# Altium integrated library DIOT-mini-backplane.IntLib: 19 symbols
Pins are listed as number, name and electrical type; pins without a type are passive.

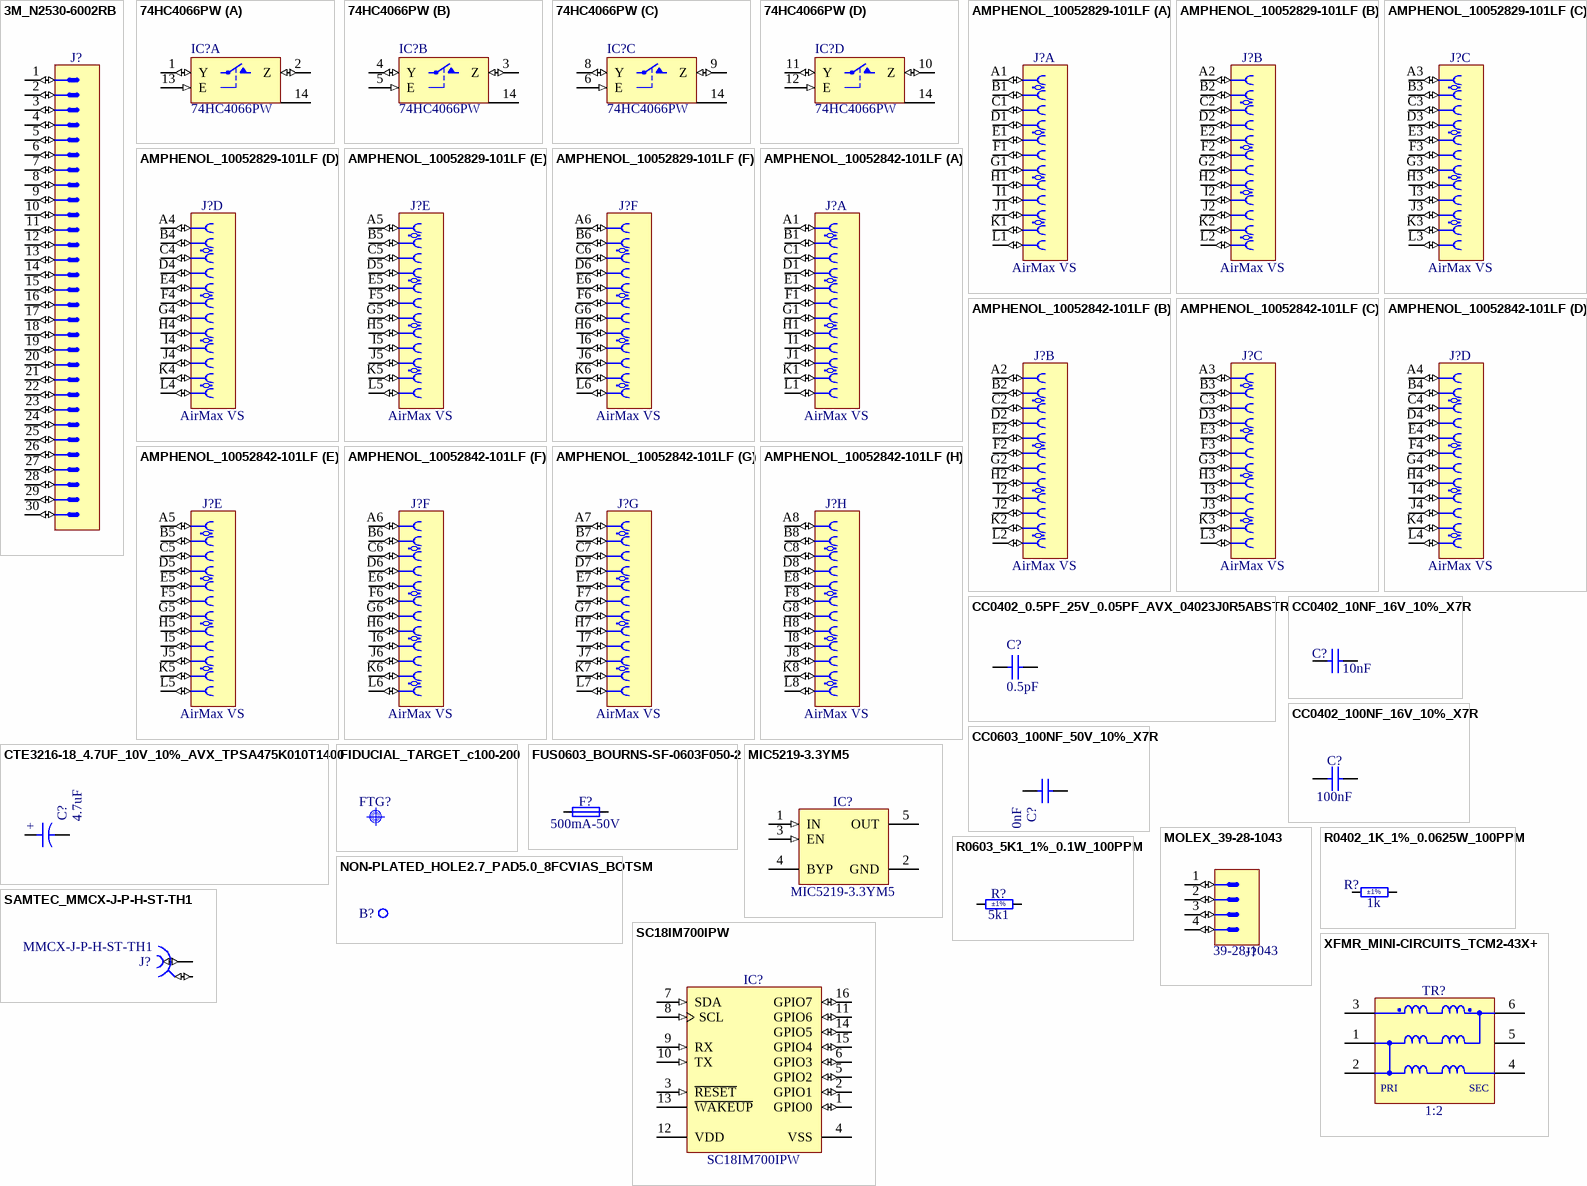
[diagram p0: symbols 3M_N2530-6002RB to XFMR_MINI-CIRCUITS_TCM2-43X+]

## 3M_N2530-6002RB
designator J?
Connector 30 Male; Part Number: 3M_N2530-6002RB; Part Description: 30 Contacts - Straight .100'' x .100'' Low Profile Four-Wall Header, 2500 Series; Manufacturer: 3M; Manufacturer Part Number: N2530-6002RB; PressFit: No; Component Kind: Standard; Component Type: Standard; Footprint: 3M_N2530-6002RB; Pin Count: 30; Family: Header 30; Mounted: Yes; Socket: No; SMD: No; Sense: No; Status: None; ComponentHeight: 10.03mm; HelpURL: \\cern.ch\dfs\Applications\Altium\Datasheets\3M_N2530-6002RB.pdf; Author: CERN DEM JLC; CreateDate: 11.02.2009; LatestRevisionDate: 11.08.2009
footprint 3M_N2530-6002RB
pins: 1 (io), 2 (io), 3 (io), 4 (io), 5 (io), 6 (io), 7 (io), 8 (io), 9 (io), 10 (io), 11 (io), 12 (io), 13 (io), 14 (io), 15 (io), 16 (io), 17 (io), 18 (io), 19 (io), 20 (io), 21 (io), 22 (io), 23 (io), 24 (io), 25 (io), 26 (io), 27 (io), 28 (io), 29 (io), 30 (io)
1 alternate drawing of the same symbol

## 74HC4066PW
designator IC?
Part Description: Quad Single-Pole Single-Throw Analog Switch; Manufacturer: NXP SEMICONDUCTORS; PressFit: No; Bonding: No; Table: Standard Logic; Part Number: 74HC4066PW; Component Kind: Standard; Component Type: Standard; Device: 74HC4066PW; Footprint: SOP65P640X110-14N; PackageDescription: SOP, 14-Leads, Body 4.4x5mm (max), Pitch 0.65mm, IPC Medium Density; Manufacturer Part Number: 74HC4066PW; Pin Count: 14; Case: TSSOP14; Mounted: Yes; Socket: No; SMD: Yes; ComponentHeight: 1.1mm; Author: CERN DEM JLC; HelpURL: \\cern.ch\dfs\Applications\Altium\Datasheets\74HC4066PW.pdf; CreateDate: 2014-11-19; LatestRevisionDate: 2014-11-19
footprint SOP65P640X110-14N
simulation model pk14 (Model Description)
pins on every part: 7 GND (power) hidden to GND, 14 VCC (power)
part A pins: 1 Y (io), 2 Z (io), 13 E (in)
part B pins: 3 Z (io), 4 Y (io), 5 E (in)
part C pins: 6 E (in), 8 Y (io), 9 Z (io)
part D pins: 10 Z (io), 11 Y (io), 12 E (in)

## AMPHENOL_10052829-101LF
designator J?, comment AirMax VS
72 Contacts Receptacle, 6 Columns, 4 Pairs per Column; Part Number: AMPHENOL_10052829-101LF; Part Description: 72 Contacts, 2mm Pitch, 6 Columns, 4 Pairs per Column, Vertical Receptacle; Manufacturer: AMPHENOL; Manufacturer Part Number: 10052829-101LF; Component Kind: Standard; Component Type: Standard; Footprint: AMPHENOL_10052829-101LF; Pin Count: 72; Family: AirMax VS; Mounted: Yes; Socket: No; SMD: No; PressFit: Yes; Sense: No; Status: None; ComponentHeight: 10.85mm; HelpURL: \\cern.ch\dfs\Applications\Altium\Datasheets\AMPHENOL_10052829-101LF.pdf; ComponentLink1URL: \\cern.ch\dfs\Applications\Altium\Datasheets\AMPHENOL_10052829-101LF_Application.pdf; ComponentLink1Description: Application; Author: CERN DEM MR; CreateDate: 30.04.2019; LatestRevisionDate: 30.04.2019
footprint AMPHENOL_10052829-101LF
part A pins: A1 (io), B1 (io), C1 (io), D1 (io), E1 (io), F1 (io), G1 (io), H1 (io), I1 (io), J1 (io), K1 (io), L1 (io)
part B pins: A2 (io), B2 (io), C2 (io), D2 (io), E2 (io), F2 (io), G2 (io), H2 (io), I2 (io), J2 (io), K2 (io), L2 (io)
part C pins: A3 (io), B3 (io), C3 (io), D3 (io), E3 (io), F3 (io), G3 (io), H3 (io), I3 (io), J3 (io), K3 (io), L3 (io)
part D pins: A4 (io), B4 (io), C4 (io), D4 (io), E4 (io), F4 (io), G4 (io), H4 (io), I4 (io), J4 (io), K4 (io), L4 (io)
part E pins: A5 (io), B5 (io), C5 (io), D5 (io), E5 (io), F5 (io), G5 (io), H5 (io), I5 (io), J5 (io), K5 (io), L5 (io)
part F pins: A6 (io), B6 (io), C6 (io), D6 (io), E6 (io), F6 (io), G6 (io), H6 (io), I6 (io), J6 (io), K6 (io), L6 (io)
1 alternate drawing of the same symbol

## AMPHENOL_10052842-101LF
designator J?, comment AirMax VS
96 Contacts Receptacle, 8 Columns, 4 Pairs per Column; Part Number: AMPHENOL_10052842-101LF; Part Description: 96 Contacts, 2mm Pitch, 8 Columns, 4 Pairs per Column, Vertical Receptacle; Manufacturer: AMPHENOL; Manufacturer Part Number: 10052842-101LF; Component Kind: Standard; Component Type: Standard; Footprint: AMPHENOL_10052842-101LF; Pin Count: 96; Family: AirMax VS; Mounted: Yes; Socket: No; SMD: No; PressFit: Yes; Sense: No; Status: None; ComponentHeight: 10.85mm; HelpURL: \\cern.ch\dfs\Applications\Altium\Datasheets\AMPHENOL_10052842-101LF.pdf; ComponentLink1URL: \\cern.ch\dfs\Applications\Altium\Datasheets\AMPHENOL_10052842-101LF_Application.pdf; ComponentLink1Description: Application; Author: CERN DEM MR; CreateDate: 30.04.2019; LatestRevisionDate: 30.04.2019
footprint AMPHENOL_10052842-101LF
part A pins: A1 (io), B1 (io), C1 (io), D1 (io), E1 (io), F1 (io), G1 (io), H1 (io), I1 (io), J1 (io), K1 (io), L1 (io)
part B pins: A2 (io), B2 (io), C2 (io), D2 (io), E2 (io), F2 (io), G2 (io), H2 (io), I2 (io), J2 (io), K2 (io), L2 (io)
part C pins: A3 (io), B3 (io), C3 (io), D3 (io), E3 (io), F3 (io), G3 (io), H3 (io), I3 (io), J3 (io), K3 (io), L3 (io)
part D pins: A4 (io), B4 (io), C4 (io), D4 (io), E4 (io), F4 (io), G4 (io), H4 (io), I4 (io), J4 (io), K4 (io), L4 (io)
part E pins: A5 (io), B5 (io), C5 (io), D5 (io), E5 (io), F5 (io), G5 (io), H5 (io), I5 (io), J5 (io), K5 (io), L5 (io)
part F pins: A6 (io), B6 (io), C6 (io), D6 (io), E6 (io), F6 (io), G6 (io), H6 (io), I6 (io), J6 (io), K6 (io), L6 (io)
part G pins: A7 (io), B7 (io), C7 (io), D7 (io), E7 (io), F7 (io), G7 (io), H7 (io), I7 (io), J7 (io), K7 (io), L7 (io)
part H pins: A8 (io), B8 (io), C8 (io), D8 (io), E8 (io), F8 (io), G8 (io), H8 (io), I8 (io), J8 (io), K8 (io), L8 (io)
1 alternate drawing of the same symbol

## CC0402_0.5PF_25V_0.05PF_AVX_04023J0R5ABSTR
designator C?, comment 0.5pF
Non-polarised capacitor; Part Number: CC0402_0.5PF_25V_0.05PF_AVX_04023J0R5ABSTR; Part Description: Thin-Film Chip Capacitors for RF Signal and Power Applications, Accu-P Series; Manufacturer: AVX; Manufacturer Part Number: 04023J0R5ABSTR; Voltage: 25V; Tolerance: ±0.05pF; Component Kind: Standard; Component Type: Standard; Footprint: CAPC1005X50N; Pin Count: 2; Value: 0.5pF; Status: None; Case: 0402; Mounted: Yes; Socket: No; SMD: Yes; Sense: No; ComponentHeight: 0.5mm; HelpURL: \\cern.ch\dfs\Applications\Altium\Datasheets\CC0402_AVX_ACCU-P.pdf; Author: CERN DEM JLC; CreateDate: 2017-02-22; LatestRevisionDate: 2017-02-22
footprint CAPC1005X50N
pins: 1, 2

## CC0402_10NF_16V_10%_X7R
designator C?, comment 10nF
Non-polarised capacitor; Part Number: CC0402_10NF_16V_10%_X7R; Part Description: SMD Multilayer Chip Ceramic Capacitor; Manufacturer: GENERIC; Manufacturer1 Part Number: 223878715636; Voltage: 16V; TC: X7R; Tolerance: ±10%; Component Kind: Standard; Component Type: Standard; Footprint: CAPC1005X55N; Pin Count: 2; Value: 10nF; Status: Not Recommended; Manufacturer Part Number: CC0402_10NF_16V_10%_X7R; Case: 0402; Mounted: Yes; Socket: No; SMD: Yes; Sense: No; Manufacturer1 Example: PHYCOMP; Manufacturer1 ComponentHeight: 0.55mm; HelpURL: \\cern.ch\dfs\Applications\Altium\Datasheets\CC0402_X7R_PHYCOMP.pdf; Author: CERN DEM JLC; CreateDate: 03/12/2007; LatestRevisionDate: 03/12/2007
footprint CAPC1005X55N
pins: 1, 2

## CC0402_100NF_16V_10%_X7R
designator C?, comment 100nF
Non-polarised capacitor; Part Number: CC0402_100NF_16V_10%_X7R; Part Description: SMD Multilayer Chip Ceramic Capacitor; Manufacturer: GENERIC; Manufacturer1 Part Number: GRM155R71C104KA88D; Voltage: 16V; TC: X7R; Tolerance: ±10%; Component Kind: Standard; Component Type: Standard; Footprint: CAPC1005X55N; Pin Count: 2; Value: 100nF; Status: Not Recommended; Manufacturer Part Number: CC0402_100NF_16V_10%_X7R; Case: 0402; Mounted: Yes; Socket: No; SMD: Yes; Sense: No; Manufacturer1 Example: MURATA; Manufacturer1 ComponentHeight: 0.55mm; HelpURL: \\cern.ch\dfs\Applications\Altium\Datasheets\CC0402_X7R_MURATA_GRM.pdf; Author: CERN DEM JLC; CreateDate: 05.12.2013; LatestRevisionDate: 03.12.2007
footprint CAPC1005X55N
pins: 1, 2

## CC0603_100NF_50V_10%_X7R
designator C?, comment 100nF
Non-polarised capacitor; Part Number: CC0603_100NF_50V_10%_X7R; Part Description: SMD Multilayer Chip Ceramic Capacitor; Manufacturer: GENERIC; Manufacturer1 Part Number: 223858615649; Voltage: 50V; TC: X7R; Tolerance: ±10%; Component Kind: Standard; Component Type: Standard; Footprint: CAPC1608X87N; Pin Count: 2; Value: 100nF; Status: Preferred; Manufacturer Part Number: CC0603_100NF_50V_10%_X7R; Case: 0603; Mounted: Yes; Socket: No; SMD: Yes; Sense: No; Manufacturer1 Example: PHYCOMP; Manufacturer1 ComponentHeight: 0.87mm; HelpURL: \\cern.ch\dfs\Applications\Altium\Datasheets\CC0603_X7R_PHYCOMP.pdf; Author: CERN DEM JLC; CreateDate: 03.12.2007; LatestRevisionDate: 03.12.2007
footprint CAPC1608X87N
pins: 1, 2

## CTE3216-18_4.7UF_10V_10%_AVX_TPSA475K010T1400
designator C?, comment 4.7uF
Polarised capacitor; Part Number: CTE3216-18_4.7UF_10V_10%_AVX_TPSA475K010T1400; Part Description: Low ESR 1R4 Automotive Solid Tantalum Chip Capacitor; Manufacturer: AVX; Manufacturer Part Number: TPSA475K010T1400; Voltage: 10V; Tolerance: ±10%; Component Kind: Standard; Component Type: Standard; Footprint: CAPMP3216X180N; Pin Count: 2; Value: 4.7uF; Status: Preferred; Case: A; Mounted: Yes; Socket: No; SMD: Yes; Sense: No; ComponentHeight: 1.8mm; HelpURL: \\cern.ch\dfs\Applications\Altium\Datasheets\CTE-LESR_AVX_TPS-AUTO.pdf; Author: CERN DEM JLC; CreateDate: 23.01.2018; LatestRevisionDate: 23.01.2018
footprint CAPMP3216X180N
pins: 1, 2
text: +

## FIDUCIAL_TARGET_c100-200
designator FTG?, comment Use only in PCB  (value not drawn)
Fiducial Target; Part Number: FIDUCIAL_TARGET_C100-200; Part Description: Round Fiducial Target, Top Layer, 1.0mm, Top Solder 2.0mm, Keepout =2.0mm; Mounted: No; Component Kind: Standard (No BOM); Component Type: Standard (No BOM); Footprint: FIDUCIAL_TOP_C100-200; Pin Count: 1; Family: Fiducial; Socket: No; SMD: Yes; Sense: No; Status: None; ComponentHeight: 0mm; HelpURL: Undefined; Author: CERN DEM JLC; CreateDate: 09/02/2010; LatestRevisionDate: 04/04/2012; PackageDescription: Round Fiducial Target, Top Layer, 1.0mm, Top Solder 2.0mm, Keepout =2.0mm
footprint FIDUCIAL_TOP_C100-200

## FUS0603_BOURNS-SF-0603F050-2
designator F?, comment 500mA-50V
Fuse; Part Number: FUS0603_BOURNS-SF-0603F050-2; Part Description: Fast Acting Thin Film Chip Fuse for Overcurrent Protection, SinglFuse™ SF-0603F  Series; Manufacturer: BOURNS; Manufacturer Part Number: SF-0603F050-2; PressFit: No; Component Kind: Standard; Component Type: Standard; Footprint: FUSC_BOURNS_SF-0603F; Pin Count: 2; Case: 0603; PackageDescription: Chip Fuse, 2-Leads, Body 1.6mm x 0.8mm, IPC Medium Density; Family: Fuse; Mounted: Yes; Socket: No; SMD: Yes; Sense: No; Value: 500mA-50V; ComponentHeight: 0.55mm; HelpURL: \\cern.ch\dfs\Applications\Altium\Datasheets\FUSC_BOURNS_SF-0603F.pdf; Author: CERN DEM JLC; CreateDate: 01.02.2017; LatestRevisionDate: 01.02.2017
footprint FUSC_BOURNS_SF-0603F
pins: 1, 2

## MIC5219-3.3YM5
designator IC?
500mA Peak Output LDO Regulator; Part Description: 3.3V 500mA Peak Output Low Drop-Out  (LDO) Regulator; Manufacturer: MICROCHIP TECHNOLOGY; PressFit: No; Bonding: No; Part Number: MIC5219-3.3YM5; Component Kind: Standard; Component Type: Standard; Device: MIC5219-3.3YM5; Footprint: SOT95P280X145-5N; PackageDescription: SOT, 0.95mm pitch; 5 pin, 1.60mm W X 2.90mm L X 1.45mm H body, IPC Medium Density; Manufacturer Part Number: MIC5219-3.3YM5; Pin Count: 5; Case: SOT23-5; Mounted: Yes; Socket: No; SMD: Yes; Sense: No; ComponentHeight: 1.45mm; HelpURL: \\cern.ch\dfs\Applications\Altium\Datasheets\MIC5219-3.3YM5.pdf; Author: CERN DEM WB; CreateDate: 2019-04-16; LatestRevisionDate: 2019-04-16
footprint SOT95P280X145-5N
pins: 1 IN (in), 2 GND (power), 3 EN (in), 4 BYP, 5 OUT (power)

## MOLEX_39-28-1043
designator J?, comment Manufacturer Part Number: 39-28-1043  (hidden comment: Mini-Fit Jr.™)
Connector 4 Male; Part Number: MOLEX_39-28-1043; Part Description: 4.20mm (.165") Pitch Mini-Fit Jr.™ Header, Dual Row, Vertical, without Snap-in Plastic Peg PCB Lock, 4 Circuits; Manufacturer: MOLEX; PressFit: No; Component Kind: Standard; Component Type: Standard; Footprint: MOLEX_39-28-1043; Pin Count: 4; Family: Mini-Fit Jr.™; Mounted: Yes; Socket: No; SMD: No; Sense: No; Status: None; ComponentHeight: 13.1mm; HelpURL: \\cern.ch\dfs\Applications\Altium\Datasheets\MOLEX_39-28-1043.pdf; Author: CERN DEM JLC; CreateDate: 12.03.2009; LatestRevisionDate: 06.03.2012
footprint MOLEX_39-28-1043
pins: 1 (io), 2 (io), 3 (io), 4 (io)
1 alternate drawing of the same symbol

## NON-PLATED_HOLE2.7_PAD5.0_8FCVIAS_BOTSM
designator B?, comment Non Plated Hole  (value not drawn)  (no BOM)
Single Terminal Socket; Part Number: NON-PLATED_HOLE2.7_PAD5.0_8FCVIAS_BOTSM; Part Description: Plated Through Hole: Hole Dia.=2.7mm Pad Dia.=5.0mmUnplated Through Hole: Hole Dia.=2.7mm Pad Dia.=5.0mm with 8 vias filled and capped and soldermask on Bottom.; Mounted: No; Component Type: Standard (No BOM); Footprint: MTG270_500_NPTH_8FCVIAS_BOTSM; Pin Count: 1; Family: Non Plated Hole; Socket: No; SMD: No; Sense: No; Status: None; ComponentHeight: 0mm; HelpURL: Undefined; Author: CERN DEM WB; CreateDate: 18/04/2024; LatestRevisionDate: 18/04/2024; PackageDescription: Unplated Through Hole: Hole Dia.=2.7mm Pad Dia.=5.0mm with 8 vias filled and capped and soldermask on Bottom.
footprint MTG270_500_NPTH_8FCVIAS_BOTSM
pins: 1 (io)

## R0402_1K_1%_0.0625W_100PPM
designator R?, comment 1k  Tolerance: ±1%
Resistor - 1%; Part Number: R0402_1K_1%_0.0625W_100PPM; Part Description: General Purpose Thick Film Chip Resistor; Manufacturer: GENERIC; Manufacturer1 Part Number: 232270671002L; Power: 0.0625W; TC: ±100ppm/°C; PressFit: No; Component Kind: Standard; Component Type: Standard; Footprint: RESC1005X40N; Pin Count: 2; Value: 1k; Status: Not Recommended; Manufacturer Part Number: R0402_1K_1%_0.0625W_100PPM; Case: 0402; Mounted: Yes; Sense: No; Socket: No; SMD: Yes; Manufacturer1 Example: YAGEO PHYCOMP; Manufacturer1 ComponentHeight: 0.4mm; HelpURL: \\cern.ch\dfs\Applications\Altium\Datasheets\R0402_Phycomp_RC0402.pdf; Author: CERN DEM JLC; CreateDate: 03/12/2007; LatestRevisionDate: 17/10/2012
footprint RESC1005X40N
pins: 1, 2

## R0603_5K1_1%_0.1W_100PPM
designator R?, comment 5k1  Tolerance: ±1%
Resistor - 1%; Part Number: R0603_5K1_1%_0.1W_100PPM; Part Description: General Purpose Thick Film Chip Resistor; Manufacturer: GENERIC; Manufacturer1 Part Number: NRC06F5101TRF; Power: 0.1W; TC: ±100ppm/°C; PressFit: No; Component Kind: Standard; Component Type: Standard; Footprint: RESC1608X55N; Pin Count: 2; Value: 5k1; Status: Preferred; Manufacturer Part Number: R0603_5K1_1%_0.1W_100PPM; Case: 0603; Mounted: Yes; Sense: No; Socket: No; SMD: Yes; Manufacturer1 Example: NIC COMPONENT; Manufacturer1 ComponentHeight: 0.55mm; HelpURL: \\cern.ch\dfs\Applications\Altium\Datasheets\R0603_NIC_NRC.pdf; Author: CERN DEM JLC; CreateDate: 03.12.2007; LatestRevisionDate: 13.03.2008
footprint RESC1608X55N
pins: 1, 2

## SAMTEC_MMCX-J-P-H-ST-TH1
designator J?, comment MMCX-J-P-H-ST-TH1
Part Number: SAMTEC_MMCX-J-P-H-ST-TH1; Part Description: Straight Through-hole 50 Ohm Micro Mini RF Jack, MMCX Series; Manufacturer: SAMTEC; PressFit: No; Component Kind: Standard; Component Type: Standard; Footprint: SAMTEC_MMCX-J-P-H-ST-TH1; Pin Count: 2; Mounted: Yes; Socket: No; Sense: No; SMD: No; Status: None; Manufacturer Part Number: MMCX-J-P-H-ST-TH1; ComponentHeight: 4.35mm; HelpURL: \\cern.ch\dfs\Applications\Altium\Datasheets\SAMTEC_MMCX-J-P-H-ST-TH1.pdf; Author: CERN DEM JLC; CreateDate: 05.12.2012; LatestRevisionDate: 05.12.2012
footprint SAMTEC_MMCX-J-P-H-ST-TH1
pins: 1 (io), 2 (io)

## SC18IM700IPW
designator IC?
Master I2C-Bus Controller With UART Interface; Manufacturer: NXP SEMICONDUCTORS; PressFit: No; Bonding: No; Part Number: SC18IM700IPW; Component Kind: Standard; Component Type: Standard; Device: SC18IM700IPW; Footprint: SOP65P640X110-16N; PackageDescription: SOP, 0.65mm pitch; 16 pin, 4.40mm W X 5.00mm L X 1.10mm H body IPC Medium Density; Part Description: Master I2C-Bus Controller with UART Interface; Manufacturer Part Number: SC18IM700IPW; Pin Count: 16; Case: TSSOP16; Mounted: Yes; Socket: No; SMD: Yes; Sense: No; ComponentHeight: 1.1mm; HelpURL: \\cern.ch\dfs\Applications\Altium\Datasheets\SC18IM700IPW.pdf; Author: CERN DEM BC; CreateDate: 31.07.2015; LatestRevisionDate: 31.07.2015
footprint SOP65P640X110-16N
pins: 1 GPIO0 (io), 2 GPIO1 (io), 3 ~{RESET} (in), 4 VSS (power), 5 GPIO2 (io), 6 GPIO3 (io), 7 SDA (in), 8 SCL (in), 9 RX (in), 10 TX (in), 11 GPIO6 (io), 12 VDD (power), 13 ~{WAKEUP}, 14 GPIO5 (io), 15 GPIO4 (io), 16 GPIO7 (io)

## XFMR_MINI-CIRCUITS_TCM2-43X+
designator TR?, comment 1:2
50 OHMS 10 to 4000 MHz RF Transformer; Part Number: XFMR_MINI-CIRCUITS_TCM2-43X+; Manufacturer: MINI-CIRCUITS; Manufacturer Part Number: TCM2-43X+; Power: 0.4W; Component Kind: Standard; Component Type: Standard; Footprint: XFMR_MINI-CIRCUITS_DB1627; Pin Count: 6; Value: 1:2; Status: None; Part Description: 50 Ohms 10 to 4000MHz RF Transformer; Mounted: Yes; Socket: No; Sense: No; SMD: Yes; ComponentHeight: 4.06mm; HelpURL: \\cern.ch\dfs\Applications\Altium\Datasheets\XFMR_MINI-CIRCUITS_TCM2-43X+.pdf; Author: CERN DEM BC; CreateDate: 2016-02-12; LatestRevisionDate: 2016-02-12
footprint XFMR_MINI-CIRCUITS_DB1627
pins: 1 P1, 2 P1, 3 P1, 4 S1, 5 NC, 6 S1
text: PRI; SEC